# Altium integrated library CAP-CSGP_rev15b.intlib: 820 symbols (part 1 of 9)
Pins are listed as number, name and electrical type; pins without a type are passive.

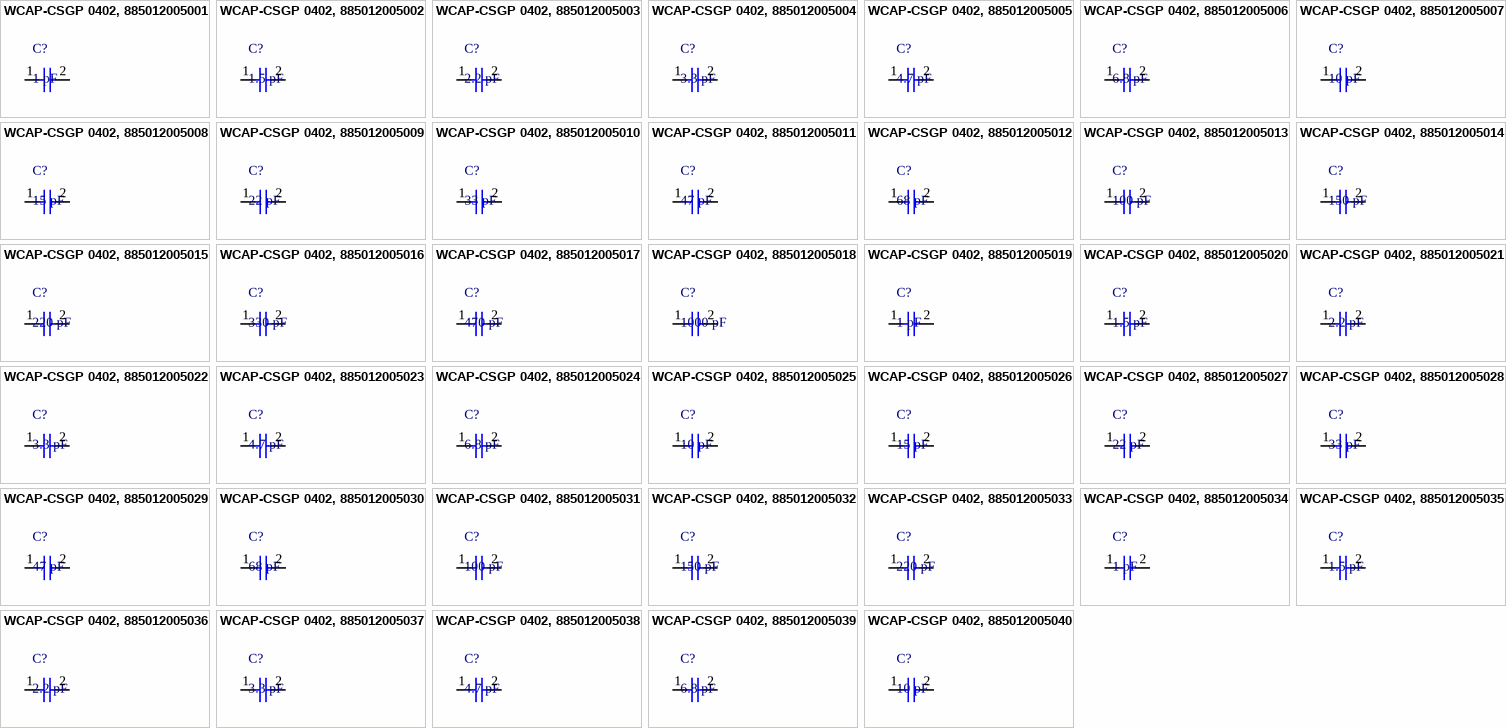
[diagram p0: symbols WCAP-CSGP 0402, 885012005001 to WCAP-CSGP 0402, 885012005040]

## WCAP-CSGP 0402, 885012005001
designator C?, comment 1 pF
WCAP-CSGP MLCC, NP0, 0402, 1 pF,10Vdc; Manufacturer: Wurth Elektronik; partNo: 885012005001; E-mail: libraries@we-online.com; ComponentLink1Description: Manufacturer; ComponentLink1URL: http://www.we-online.com; ComponentLink2Description: Datasheet; ComponentLink2URL: http://katalog.we-online.de/pbs/datasheet/885012005001.pdf; Created by: Karrer Zheng; Created Date: 3/9/2015; Capacitance: 1 pF
footprint WCAP-CSGP 0402, H=0.5mm
pins: 1, 2

## WCAP-CSGP 0402, 885012005002
designator C?, comment 1.5 pF
WCAP-CSGP MLCC, NP0, 0402, 1.5 pF,10Vdc; Manufacturer: Wurth Elektronik; partNo: 885012005002; E-mail: libraries@we-online.com; ComponentLink1Description: Manufacturer; ComponentLink1URL: http://www.we-online.com; ComponentLink2Description: Datasheet; ComponentLink2URL: http://katalog.we-online.de/pbs/datasheet/885012005002.pdf; Created by: Karrer Zheng; Created Date: 3/9/2015; Capacitance: 1.5 pF
footprint WCAP-CSGP 0402, H=0.5mm
pins: 1, 2

## WCAP-CSGP 0402, 885012005003
designator C?, comment 2.2 pF
WCAP-CSGP MLCC, NP0, 0402, 2.2 pF,10Vdc; Manufacturer: Wurth Elektronik; partNo: 885012005003; E-mail: libraries@we-online.com; ComponentLink1Description: Manufacturer; ComponentLink1URL: http://www.we-online.com; ComponentLink2Description: Datasheet; ComponentLink2URL: http://katalog.we-online.de/pbs/datasheet/885012005003.pdf; Created by: Karrer Zheng; Created Date: 3/9/2015; Capacitance: 2.2 pF
footprint WCAP-CSGP 0402, H=0.5mm
pins: 1, 2

## WCAP-CSGP 0402, 885012005004
designator C?, comment 3.3 pF
WCAP-CSGP MLCC, NP0, 0402, 3.3 pF,10Vdc; Manufacturer: Wurth Elektronik; partNo: 885012005004; E-mail: libraries@we-online.com; ComponentLink1Description: Manufacturer; ComponentLink1URL: http://www.we-online.com; ComponentLink2Description: Datasheet; ComponentLink2URL: http://katalog.we-online.de/pbs/datasheet/885012005004.pdf; Created by: Karrer Zheng; Created Date: 3/9/2015; Capacitance: 3.3 pF
footprint WCAP-CSGP 0402, H=0.5mm
pins: 1, 2

## WCAP-CSGP 0402, 885012005005
designator C?, comment 4.7 pF
WCAP-CSGP MLCC, NP0, 0402, 4.7 pF,10Vdc; Manufacturer: Wurth Elektronik; partNo: 885012005005; E-mail: libraries@we-online.com; ComponentLink1Description: Manufacturer; ComponentLink1URL: http://www.we-online.com; ComponentLink2Description: Datasheet; ComponentLink2URL: http://katalog.we-online.de/pbs/datasheet/885012005005.pdf; Created by: Karrer Zheng; Created Date: 3/9/2015; Capacitance: 4.7 pF
footprint WCAP-CSGP 0402, H=0.5mm
pins: 1, 2

## WCAP-CSGP 0402, 885012005006
designator C?, comment 6.8 pF
WCAP-CSGP MLCC, NP0, 0402, 6.8 pF,10Vdc; Manufacturer: Wurth Elektronik; partNo: 885012005006; E-mail: libraries@we-online.com; ComponentLink1Description: Manufacturer; ComponentLink1URL: http://www.we-online.com; ComponentLink2Description: Datasheet; ComponentLink2URL: http://katalog.we-online.de/pbs/datasheet/885012005006.pdf; Created by: Karrer Zheng; Created Date: 3/9/2015; Capacitance: 6.8 pF
footprint WCAP-CSGP 0402, H=0.5mm
pins: 1, 2

## WCAP-CSGP 0402, 885012005007
designator C?, comment 10 pF
WCAP-CSGP MLCC, NP0, 0402, 10 pF,10Vdc; Manufacturer: Wurth Elektronik; partNo: 885012005007; E-mail: libraries@we-online.com; ComponentLink1Description: Manufacturer; ComponentLink1URL: http://www.we-online.com; ComponentLink2Description: Datasheet; ComponentLink2URL: http://katalog.we-online.de/pbs/datasheet/885012005007.pdf; Created by: Karrer Zheng; Created Date: 3/9/2015; Capacitance: 10 pF
footprint WCAP-CSGP 0402, H=0.5mm
pins: 1, 2

## WCAP-CSGP 0402, 885012005008
designator C?, comment 15 pF
WCAP-CSGP MLCC, NP0, 0402, 15 pF,10Vdc; Manufacturer: Wurth Elektronik; partNo: 885012005008; E-mail: libraries@we-online.com; ComponentLink1Description: Manufacturer; ComponentLink1URL: http://www.we-online.com; ComponentLink2Description: Datasheet; ComponentLink2URL: http://katalog.we-online.de/pbs/datasheet/885012005008.pdf; Created by: Karrer Zheng; Created Date: 3/9/2015; Capacitance: 15 pF
footprint WCAP-CSGP 0402, H=0.5mm
pins: 1, 2

## WCAP-CSGP 0402, 885012005009
designator C?, comment 22 pF
WCAP-CSGP MLCC, NP0, 0402, 22 pF,10Vdc; Manufacturer: Wurth Elektronik; partNo: 885012005009; E-mail: libraries@we-online.com; ComponentLink1Description: Manufacturer; ComponentLink1URL: http://www.we-online.com; ComponentLink2Description: Datasheet; ComponentLink2URL: http://katalog.we-online.de/pbs/datasheet/885012005009.pdf; Created by: Karrer Zheng; Created Date: 3/9/2015; Capacitance: 22 pF
footprint WCAP-CSGP 0402, H=0.5mm
pins: 1, 2

## WCAP-CSGP 0402, 885012005010
designator C?, comment 33 pF
WCAP-CSGP MLCC, NP0, 0402, 33 pF,10Vdc; Manufacturer: Wurth Elektronik; partNo: 885012005010; E-mail: libraries@we-online.com; ComponentLink1Description: Manufacturer; ComponentLink1URL: http://www.we-online.com; ComponentLink2Description: Datasheet; ComponentLink2URL: http://katalog.we-online.de/pbs/datasheet/885012005010.pdf; Created by: Karrer Zheng; Created Date: 3/9/2015; Capacitance: 33 pF
footprint WCAP-CSGP 0402, H=0.5mm
pins: 1, 2

## WCAP-CSGP 0402, 885012005011
designator C?, comment 47 pF
WCAP-CSGP MLCC, NP0, 0402, 47 pF,10Vdc; Manufacturer: Wurth Elektronik; partNo: 885012005011; E-mail: libraries@we-online.com; ComponentLink1Description: Manufacturer; ComponentLink1URL: http://www.we-online.com; ComponentLink2Description: Datasheet; ComponentLink2URL: http://katalog.we-online.de/pbs/datasheet/885012005011.pdf; Created by: Karrer Zheng; Created Date: 3/9/2015; Capacitance: 47 pF
footprint WCAP-CSGP 0402, H=0.5mm
pins: 1, 2

## WCAP-CSGP 0402, 885012005012
designator C?, comment 68 pF
WCAP-CSGP MLCC, NP0, 0402, 68 pF,10Vdc; Manufacturer: Wurth Elektronik; partNo: 885012005012; E-mail: libraries@we-online.com; ComponentLink1Description: Manufacturer; ComponentLink1URL: http://www.we-online.com; ComponentLink2Description: Datasheet; ComponentLink2URL: http://katalog.we-online.de/pbs/datasheet/885012005012.pdf; Created by: Karrer Zheng; Created Date: 3/9/2015; Capacitance: 68 pF
footprint WCAP-CSGP 0402, H=0.5mm
pins: 1, 2

## WCAP-CSGP 0402, 885012005013
designator C?, comment 100 pF
WCAP-CSGP MLCC, NP0, 0402, 100 pF,10Vdc; Manufacturer: Wurth Elektronik; partNo: 885012005013; E-mail: libraries@we-online.com; ComponentLink1Description: Manufacturer; ComponentLink1URL: http://www.we-online.com; ComponentLink2Description: Datasheet; ComponentLink2URL: http://katalog.we-online.de/pbs/datasheet/885012005013.pdf; Created by: Karrer Zheng; Created Date: 3/9/2015; Capacitance: 100 pF
footprint WCAP-CSGP 0402, H=0.5mm
pins: 1, 2

## WCAP-CSGP 0402, 885012005014
designator C?, comment 150 pF
WCAP-CSGP MLCC, NP0, 0402, 150 pF,10Vdc; Manufacturer: Wurth Elektronik; partNo: 885012005014; E-mail: libraries@we-online.com; ComponentLink1Description: Manufacturer; ComponentLink1URL: http://www.we-online.com; ComponentLink2Description: Datasheet; ComponentLink2URL: http://katalog.we-online.de/pbs/datasheet/885012005014.pdf; Created by: Karrer Zheng; Created Date: 3/9/2015; Capacitance: 150 pF
footprint WCAP-CSGP 0402, H=0.5mm
pins: 1, 2

## WCAP-CSGP 0402, 885012005015
designator C?, comment 220 pF
WCAP-CSGP MLCC, NP0, 0402, 220 pF,10Vdc; Manufacturer: Wurth Elektronik; partNo: 885012005015; E-mail: libraries@we-online.com; ComponentLink1Description: Manufacturer; ComponentLink1URL: http://www.we-online.com; ComponentLink2Description: Datasheet; ComponentLink2URL: http://katalog.we-online.de/pbs/datasheet/885012005015.pdf; Created by: Karrer Zheng; Created Date: 3/9/2015; Capacitance: 220 pF
footprint WCAP-CSGP 0402, H=0.5mm
pins: 1, 2

## WCAP-CSGP 0402, 885012005016
designator C?, comment 330 pF
WCAP-CSGP MLCC, NP0, 0402, 330 pF,10Vdc; Manufacturer: Wurth Elektronik; partNo: 885012005016; E-mail: libraries@we-online.com; ComponentLink1Description: Manufacturer; ComponentLink1URL: http://www.we-online.com; ComponentLink2Description: Datasheet; ComponentLink2URL: http://katalog.we-online.de/pbs/datasheet/885012005016.pdf; Created by: Karrer Zheng; Created Date: 3/9/2015; Capacitance: 330 pF
footprint WCAP-CSGP 0402, H=0.5mm
pins: 1, 2

## WCAP-CSGP 0402, 885012005017
designator C?, comment 470 pF
WCAP-CSGP MLCC, NP0, 0402, 470 pF,10Vdc; Manufacturer: Wurth Elektronik; partNo: 885012005017; E-mail: libraries@we-online.com; ComponentLink1Description: Manufacturer; ComponentLink1URL: http://www.we-online.com; ComponentLink2Description: Datasheet; ComponentLink2URL: http://katalog.we-online.de/pbs/datasheet/885012005017.pdf; Created by: Karrer Zheng; Created Date: 3/9/2015; Capacitance: 470 pF
footprint WCAP-CSGP 0402, H=0.5mm
pins: 1, 2

## WCAP-CSGP 0402, 885012005018
designator C?, comment 1000 pF
WCAP-CSGP MLCC, NP0, 0402, 1000 pF,10Vdc; Manufacturer: Wurth Elektronik; partNo: 885012005018; E-mail: libraries@we-online.com; ComponentLink1Description: Manufacturer; ComponentLink1URL: http://www.we-online.com; ComponentLink2Description: Datasheet; ComponentLink2URL: http://katalog.we-online.de/pbs/datasheet/885012005018.pdf; Created by: Karrer Zheng; Created Date: 3/9/2015; Capacitance: 1000 pF
footprint WCAP-CSGP 0402, H=0.5mm
pins: 1, 2

## WCAP-CSGP 0402, 885012005019
designator C?, comment 1 pF
WCAP-CSGP MLCC, NP0, 0402, 1 pF,16Vdc; Manufacturer: Wurth Elektronik; partNo: 885012005019; E-mail: libraries@we-online.com; ComponentLink1Description: Manufacturer; ComponentLink1URL: http://www.we-online.com; ComponentLink2Description: Datasheet; ComponentLink2URL: http://katalog.we-online.de/pbs/datasheet/885012005019.pdf; Created by: Karrer Zheng; Created Date: 3/9/2015; Capacitance: 1 pF
footprint WCAP-CSGP 0402, H=0.5mm
pins: 1, 2

## WCAP-CSGP 0402, 885012005020
designator C?, comment 1.5 pF
WCAP-CSGP MLCC, NP0, 0402, 1.5 pF,16Vdc; Manufacturer: Wurth Elektronik; partNo: 885012005020; E-mail: libraries@we-online.com; ComponentLink1Description: Manufacturer; ComponentLink1URL: http://www.we-online.com; ComponentLink2Description: Datasheet; ComponentLink2URL: http://katalog.we-online.de/pbs/datasheet/885012005020.pdf; Created by: Karrer Zheng; Created Date: 3/9/2015; Capacitance: 1.5 pF
footprint WCAP-CSGP 0402, H=0.5mm
pins: 1, 2

## WCAP-CSGP 0402, 885012005021
designator C?, comment 2.2 pF
WCAP-CSGP MLCC, NP0, 0402, 2.2 pF,16Vdc; Manufacturer: Wurth Elektronik; partNo: 885012005021; E-mail: libraries@we-online.com; ComponentLink1Description: Manufacturer; ComponentLink1URL: http://www.we-online.com; ComponentLink2Description: Datasheet; ComponentLink2URL: http://katalog.we-online.de/pbs/datasheet/885012005021.pdf; Created by: Karrer Zheng; Created Date: 3/9/2015; Capacitance: 2.2 pF
footprint WCAP-CSGP 0402, H=0.5mm
pins: 1, 2

## WCAP-CSGP 0402, 885012005022
designator C?, comment 3.3 pF
WCAP-CSGP MLCC, NP0, 0402, 3.3 pF,16Vdc; Manufacturer: Wurth Elektronik; partNo: 885012005022; E-mail: libraries@we-online.com; ComponentLink1Description: Manufacturer; ComponentLink1URL: http://www.we-online.com; ComponentLink2Description: Datasheet; ComponentLink2URL: http://katalog.we-online.de/pbs/datasheet/885012005022.pdf; Created by: Karrer Zheng; Created Date: 3/9/2015; Capacitance: 3.3 pF
footprint WCAP-CSGP 0402, H=0.5mm
pins: 1, 2

## WCAP-CSGP 0402, 885012005023
designator C?, comment 4.7 pF
WCAP-CSGP MLCC, NP0, 0402, 4.7 pF,16Vdc; Manufacturer: Wurth Elektronik; partNo: 885012005023; E-mail: libraries@we-online.com; ComponentLink1Description: Manufacturer; ComponentLink1URL: http://www.we-online.com; ComponentLink2Description: Datasheet; ComponentLink2URL: http://katalog.we-online.de/pbs/datasheet/885012005023.pdf; Created by: Karrer Zheng; Created Date: 3/9/2015; Capacitance: 4.7 pF
footprint WCAP-CSGP 0402, H=0.5mm
pins: 1, 2

## WCAP-CSGP 0402, 885012005024
designator C?, comment 6.8 pF
WCAP-CSGP MLCC, NP0, 0402, 6.8 pF,16Vdc; Manufacturer: Wurth Elektronik; partNo: 885012005024; E-mail: libraries@we-online.com; ComponentLink1Description: Manufacturer; ComponentLink1URL: http://www.we-online.com; ComponentLink2Description: Datasheet; ComponentLink2URL: http://katalog.we-online.de/pbs/datasheet/885012005024.pdf; Created by: Karrer Zheng; Created Date: 3/9/2015; Capacitance: 6.8 pF
footprint WCAP-CSGP 0402, H=0.5mm
pins: 1, 2

## WCAP-CSGP 0402, 885012005025
designator C?, comment 10 pF
WCAP-CSGP MLCC, NP0, 0402, 10 pF,16Vdc; Manufacturer: Wurth Elektronik; partNo: 885012005025; E-mail: libraries@we-online.com; ComponentLink1Description: Manufacturer; ComponentLink1URL: http://www.we-online.com; ComponentLink2Description: Datasheet; ComponentLink2URL: http://katalog.we-online.de/pbs/datasheet/885012005025.pdf; Created by: Karrer Zheng; Created Date: 3/9/2015; Capacitance: 10 pF
footprint WCAP-CSGP 0402, H=0.5mm
pins: 1, 2

## WCAP-CSGP 0402, 885012005026
designator C?, comment 15 pF
WCAP-CSGP MLCC, NP0, 0402, 15 pF,16Vdc; Manufacturer: Wurth Elektronik; partNo: 885012005026; E-mail: libraries@we-online.com; ComponentLink1Description: Manufacturer; ComponentLink1URL: http://www.we-online.com; ComponentLink2Description: Datasheet; ComponentLink2URL: http://katalog.we-online.de/pbs/datasheet/885012005026.pdf; Created by: Karrer Zheng; Created Date: 3/9/2015; Capacitance: 15 pF
footprint WCAP-CSGP 0402, H=0.5mm
pins: 1, 2

## WCAP-CSGP 0402, 885012005027
designator C?, comment 22 pF
WCAP-CSGP MLCC, NP0, 0402, 22 pF,16Vdc; Manufacturer: Wurth Elektronik; partNo: 885012005027; E-mail: libraries@we-online.com; ComponentLink1Description: Manufacturer; ComponentLink1URL: http://www.we-online.com; ComponentLink2Description: Datasheet; ComponentLink2URL: http://katalog.we-online.de/pbs/datasheet/885012005027.pdf; Created by: Karrer Zheng; Created Date: 3/9/2015; Capacitance: 22 pF
footprint WCAP-CSGP 0402, H=0.5mm
pins: 1, 2

## WCAP-CSGP 0402, 885012005028
designator C?, comment 33 pF
WCAP-CSGP MLCC, NP0, 0402, 33 pF,16Vdc; Manufacturer: Wurth Elektronik; partNo: 885012005028; E-mail: libraries@we-online.com; ComponentLink1Description: Manufacturer; ComponentLink1URL: http://www.we-online.com; ComponentLink2Description: Datasheet; ComponentLink2URL: http://katalog.we-online.de/pbs/datasheet/885012005028.pdf; Created by: Karrer Zheng; Created Date: 3/9/2015; Capacitance: 33 pF
footprint WCAP-CSGP 0402, H=0.5mm
pins: 1, 2

## WCAP-CSGP 0402, 885012005029
designator C?, comment 47 pF
WCAP-CSGP MLCC, NP0, 0402, 47 pF,16Vdc; Manufacturer: Wurth Elektronik; partNo: 885012005029; E-mail: libraries@we-online.com; ComponentLink1Description: Manufacturer; ComponentLink1URL: http://www.we-online.com; ComponentLink2Description: Datasheet; ComponentLink2URL: http://katalog.we-online.de/pbs/datasheet/885012005029.pdf; Created by: Karrer Zheng; Created Date: 3/9/2015; Capacitance: 47 pF
footprint WCAP-CSGP 0402, H=0.5mm
pins: 1, 2

## WCAP-CSGP 0402, 885012005030
designator C?, comment 68 pF
WCAP-CSGP MLCC, NP0, 0402, 68 pF,16Vdc; Manufacturer: Wurth Elektronik; partNo: 885012005030; E-mail: libraries@we-online.com; ComponentLink1Description: Manufacturer; ComponentLink1URL: http://www.we-online.com; ComponentLink2Description: Datasheet; ComponentLink2URL: http://katalog.we-online.de/pbs/datasheet/885012005030.pdf; Created by: Karrer Zheng; Created Date: 3/9/2015; Capacitance: 68 pF
footprint WCAP-CSGP 0402, H=0.5mm
pins: 1, 2

## WCAP-CSGP 0402, 885012005031
designator C?, comment 100 pF
WCAP-CSGP MLCC, NP0, 0402, 100 pF,16Vdc; Manufacturer: Wurth Elektronik; partNo: 885012005031; E-mail: libraries@we-online.com; ComponentLink1Description: Manufacturer; ComponentLink1URL: http://www.we-online.com; ComponentLink2Description: Datasheet; ComponentLink2URL: http://katalog.we-online.de/pbs/datasheet/885012005031.pdf; Created by: Karrer Zheng; Created Date: 3/9/2015; Capacitance: 100 pF
footprint WCAP-CSGP 0402, H=0.5mm
pins: 1, 2

## WCAP-CSGP 0402, 885012005032
designator C?, comment 150 pF
WCAP-CSGP MLCC, NP0, 0402, 150 pF,16Vdc; Manufacturer: Wurth Elektronik; partNo: 885012005032; E-mail: libraries@we-online.com; ComponentLink1Description: Manufacturer; ComponentLink1URL: http://www.we-online.com; ComponentLink2Description: Datasheet; ComponentLink2URL: http://katalog.we-online.de/pbs/datasheet/885012005032.pdf; Created by: Karrer Zheng; Created Date: 3/9/2015; Capacitance: 150 pF
footprint WCAP-CSGP 0402, H=0.5mm
pins: 1, 2

## WCAP-CSGP 0402, 885012005033
designator C?, comment 220 pF
WCAP-CSGP MLCC, NP0, 0402, 220 pF,16Vdc; Manufacturer: Wurth Elektronik; partNo: 885012005033; E-mail: libraries@we-online.com; ComponentLink1Description: Manufacturer; ComponentLink1URL: http://www.we-online.com; ComponentLink2Description: Datasheet; ComponentLink2URL: http://katalog.we-online.de/pbs/datasheet/885012005033.pdf; Created by: Karrer Zheng; Created Date: 3/9/2015; Capacitance: 220 pF
footprint WCAP-CSGP 0402, H=0.5mm
pins: 1, 2

## WCAP-CSGP 0402, 885012005034
designator C?, comment 1 pF
WCAP-CSGP MLCC, NP0, 0402, 1 pF,25Vdc; Manufacturer: Wurth Elektronik; partNo: 885012005034; E-mail: libraries@we-online.com; ComponentLink1Description: Manufacturer; ComponentLink1URL: http://www.we-online.com; ComponentLink2Description: Datasheet; ComponentLink2URL: http://katalog.we-online.de/pbs/datasheet/885012005034.pdf; Created by: Karrer Zheng; Created Date: 3/9/2015; Capacitance: 1 pF
footprint WCAP-CSGP 0402, H=0.5mm
pins: 1, 2

## WCAP-CSGP 0402, 885012005035
designator C?, comment 1.5 pF
WCAP-CSGP MLCC, NP0, 0402, 1.5 pF,25Vdc; Manufacturer: Wurth Elektronik; partNo: 885012005035; E-mail: libraries@we-online.com; ComponentLink1Description: Manufacturer; ComponentLink1URL: http://www.we-online.com; ComponentLink2Description: Datasheet; ComponentLink2URL: http://katalog.we-online.de/pbs/datasheet/885012005035.pdf; Created by: Karrer Zheng; Created Date: 3/9/2015; Capacitance: 1.5 pF
footprint WCAP-CSGP 0402, H=0.5mm
pins: 1, 2

## WCAP-CSGP 0402, 885012005036
designator C?, comment 2.2 pF
WCAP-CSGP MLCC, NP0, 0402, 2.2 pF,25Vdc; Manufacturer: Wurth Elektronik; partNo: 885012005036; E-mail: libraries@we-online.com; ComponentLink1Description: Manufacturer; ComponentLink1URL: http://www.we-online.com; ComponentLink2Description: Datasheet; ComponentLink2URL: http://katalog.we-online.de/pbs/datasheet/885012005036.pdf; Created by: Karrer Zheng; Created Date: 3/9/2015; Capacitance: 2.2 pF
footprint WCAP-CSGP 0402, H=0.5mm
pins: 1, 2

## WCAP-CSGP 0402, 885012005037
designator C?, comment 3.3 pF
WCAP-CSGP MLCC, NP0, 0402, 3.3 pF,25Vdc; Manufacturer: Wurth Elektronik; partNo: 885012005037; E-mail: libraries@we-online.com; ComponentLink1Description: Manufacturer; ComponentLink1URL: http://www.we-online.com; ComponentLink2Description: Datasheet; ComponentLink2URL: http://katalog.we-online.de/pbs/datasheet/885012005037.pdf; Created by: Karrer Zheng; Created Date: 3/9/2015; Capacitance: 3.3 pF
footprint WCAP-CSGP 0402, H=0.5mm
pins: 1, 2

## WCAP-CSGP 0402, 885012005038
designator C?, comment 4.7 pF
WCAP-CSGP MLCC, NP0, 0402, 4.7 pF,25Vdc; Manufacturer: Wurth Elektronik; partNo: 885012005038; E-mail: libraries@we-online.com; ComponentLink1Description: Manufacturer; ComponentLink1URL: http://www.we-online.com; ComponentLink2Description: Datasheet; ComponentLink2URL: http://katalog.we-online.de/pbs/datasheet/885012005038.pdf; Created by: Karrer Zheng; Created Date: 3/9/2015; Capacitance: 4.7 pF
footprint WCAP-CSGP 0402, H=0.5mm
pins: 1, 2

## WCAP-CSGP 0402, 885012005039
designator C?, comment 6.8 pF
WCAP-CSGP MLCC, NP0, 0402, 6.8 pF,25Vdc; Manufacturer: Wurth Elektronik; partNo: 885012005039; E-mail: libraries@we-online.com; ComponentLink1Description: Manufacturer; ComponentLink1URL: http://www.we-online.com; ComponentLink2Description: Datasheet; ComponentLink2URL: http://katalog.we-online.de/pbs/datasheet/885012005039.pdf; Created by: Karrer Zheng; Created Date: 3/9/2015; Capacitance: 6.8 pF
footprint WCAP-CSGP 0402, H=0.5mm
pins: 1, 2

## WCAP-CSGP 0402, 885012005040
designator C?, comment 10 pF
WCAP-CSGP MLCC, NP0, 0402, 10 pF,25Vdc; Manufacturer: Wurth Elektronik; partNo: 885012005040; E-mail: libraries@we-online.com; ComponentLink1Description: Manufacturer; ComponentLink1URL: http://www.we-online.com; ComponentLink2Description: Datasheet; ComponentLink2URL: http://katalog.we-online.de/pbs/datasheet/885012005040.pdf; Created by: Karrer Zheng; Created Date: 3/9/2015; Capacitance: 10 pF
footprint WCAP-CSGP 0402, H=0.5mm
pins: 1, 2

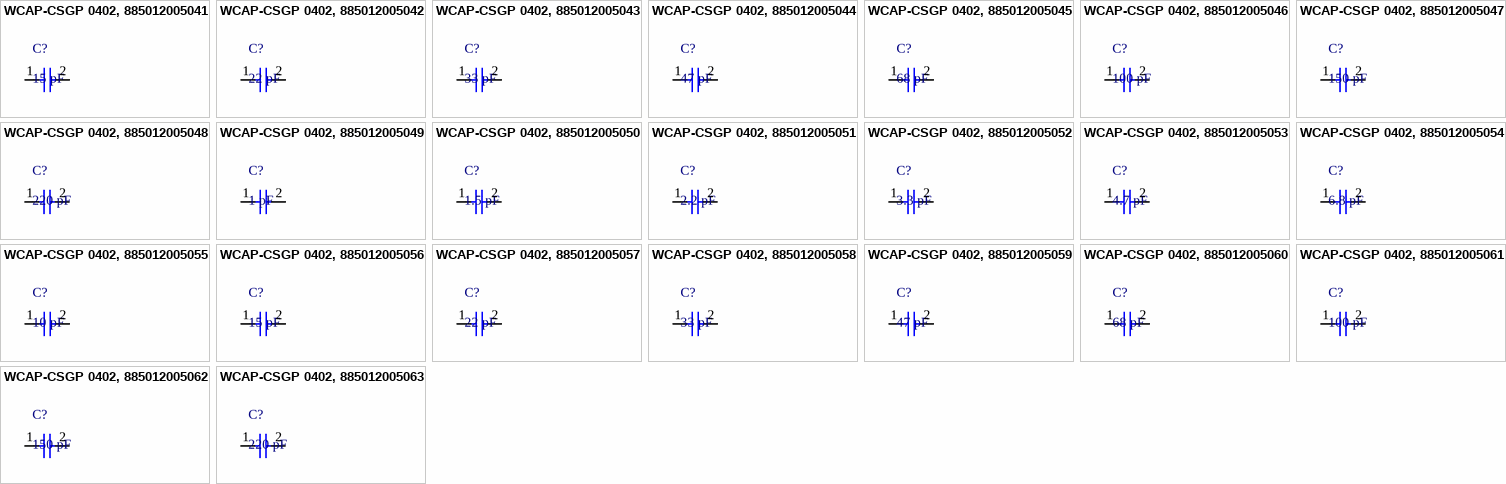
[diagram p1: symbols WCAP-CSGP 0402, 885012005041 to WCAP-CSGP 0402, 885012005063]

## WCAP-CSGP 0402, 885012005041
designator C?, comment 15 pF
WCAP-CSGP MLCC, NP0, 0402, 15 pF,25Vdc; Manufacturer: Wurth Elektronik; partNo: 885012005041; E-mail: libraries@we-online.com; ComponentLink1Description: Manufacturer; ComponentLink1URL: http://www.we-online.com; ComponentLink2Description: Datasheet; ComponentLink2URL: http://katalog.we-online.de/pbs/datasheet/885012005041.pdf; Created by: Karrer Zheng; Created Date: 3/9/2015; Capacitance: 15 pF
footprint WCAP-CSGP 0402, H=0.5mm
pins: 1, 2

## WCAP-CSGP 0402, 885012005042
designator C?, comment 22 pF
WCAP-CSGP MLCC, NP0, 0402, 22 pF,25Vdc; Manufacturer: Wurth Elektronik; partNo: 885012005042; E-mail: libraries@we-online.com; ComponentLink1Description: Manufacturer; ComponentLink1URL: http://www.we-online.com; ComponentLink2Description: Datasheet; ComponentLink2URL: http://katalog.we-online.de/pbs/datasheet/885012005042.pdf; Created by: Karrer Zheng; Created Date: 3/9/2015; Capacitance: 22 pF
footprint WCAP-CSGP 0402, H=0.5mm
pins: 1, 2

## WCAP-CSGP 0402, 885012005043
designator C?, comment 33 pF
WCAP-CSGP MLCC, NP0, 0402, 33 pF,25Vdc; Manufacturer: Wurth Elektronik; partNo: 885012005043; E-mail: libraries@we-online.com; ComponentLink1Description: Manufacturer; ComponentLink1URL: http://www.we-online.com; ComponentLink2Description: Datasheet; ComponentLink2URL: http://katalog.we-online.de/pbs/datasheet/885012005043.pdf; Created by: Karrer Zheng; Created Date: 3/9/2015; Capacitance: 33 pF
footprint WCAP-CSGP 0402, H=0.5mm
pins: 1, 2

## WCAP-CSGP 0402, 885012005044
designator C?, comment 47 pF
WCAP-CSGP MLCC, NP0, 0402, 47 pF,25Vdc; Manufacturer: Wurth Elektronik; partNo: 885012005044; E-mail: libraries@we-online.com; ComponentLink1Description: Manufacturer; ComponentLink1URL: http://www.we-online.com; ComponentLink2Description: Datasheet; ComponentLink2URL: http://katalog.we-online.de/pbs/datasheet/885012005044.pdf; Created by: Karrer Zheng; Created Date: 3/9/2015; Capacitance: 47 pF
footprint WCAP-CSGP 0402, H=0.5mm
pins: 1, 2

## WCAP-CSGP 0402, 885012005045
designator C?, comment 68 pF
WCAP-CSGP MLCC, NP0, 0402, 68 pF,25Vdc; Manufacturer: Wurth Elektronik; partNo: 885012005045; E-mail: libraries@we-online.com; ComponentLink1Description: Manufacturer; ComponentLink1URL: http://www.we-online.com; ComponentLink2Description: Datasheet; ComponentLink2URL: http://katalog.we-online.de/pbs/datasheet/885012005045.pdf; Created by: Karrer Zheng; Created Date: 3/9/2015; Capacitance: 68 pF
footprint WCAP-CSGP 0402, H=0.5mm
pins: 1, 2

## WCAP-CSGP 0402, 885012005046
designator C?, comment 100 pF
WCAP-CSGP MLCC, NP0, 0402, 100 pF,25Vdc; Manufacturer: Wurth Elektronik; partNo: 885012005046; E-mail: libraries@we-online.com; ComponentLink1Description: Manufacturer; ComponentLink1URL: http://www.we-online.com; ComponentLink2Description: Datasheet; ComponentLink2URL: http://katalog.we-online.de/pbs/datasheet/885012005046.pdf; Created by: Karrer Zheng; Created Date: 3/9/2015; Capacitance: 100 pF
footprint WCAP-CSGP 0402, H=0.5mm
pins: 1, 2

## WCAP-CSGP 0402, 885012005047
designator C?, comment 150 pF
WCAP-CSGP MLCC, NP0, 0402, 150 pF,25Vdc; Manufacturer: Wurth Elektronik; partNo: 885012005047; E-mail: libraries@we-online.com; ComponentLink1Description: Manufacturer; ComponentLink1URL: http://www.we-online.com; ComponentLink2Description: Datasheet; ComponentLink2URL: http://katalog.we-online.de/pbs/datasheet/885012005047.pdf; Created by: Karrer Zheng; Created Date: 3/9/2015; Capacitance: 150 pF
footprint WCAP-CSGP 0402, H=0.5mm
pins: 1, 2

## WCAP-CSGP 0402, 885012005048
designator C?, comment 220 pF
WCAP-CSGP MLCC, NP0, 0402, 220 pF,25Vdc; Manufacturer: Wurth Elektronik; partNo: 885012005048; E-mail: libraries@we-online.com; ComponentLink1Description: Manufacturer; ComponentLink1URL: http://www.we-online.com; ComponentLink2Description: Datasheet; ComponentLink2URL: http://katalog.we-online.de/pbs/datasheet/885012005048.pdf; Created by: Karrer Zheng; Created Date: 3/9/2015; Capacitance: 220 pF
footprint WCAP-CSGP 0402, H=0.5mm
pins: 1, 2

## WCAP-CSGP 0402, 885012005049
designator C?, comment 1 pF
WCAP-CSGP MLCC, NP0, 0402, 1 pF,50Vdc; Manufacturer: Wurth Elektronik; partNo: 885012005049; E-mail: libraries@we-online.com; ComponentLink1Description: Manufacturer; ComponentLink1URL: http://www.we-online.com; ComponentLink2Description: Datasheet; ComponentLink2URL: http://katalog.we-online.de/pbs/datasheet/885012005049.pdf; Created by: Karrer Zheng; Created Date: 3/9/2015; Capacitance: 1 pF
footprint WCAP-CSGP 0402, H=0.5mm
pins: 1, 2

## WCAP-CSGP 0402, 885012005050
designator C?, comment 1.5 pF
WCAP-CSGP MLCC, NP0, 0402, 1.5 pF,50Vdc; Manufacturer: Wurth Elektronik; partNo: 885012005050; E-mail: libraries@we-online.com; ComponentLink1Description: Manufacturer; ComponentLink1URL: http://www.we-online.com; ComponentLink2Description: Datasheet; ComponentLink2URL: http://katalog.we-online.de/pbs/datasheet/885012005050.pdf; Created by: Karrer Zheng; Created Date: 3/9/2015; Capacitance: 1.5 pF
footprint WCAP-CSGP 0402, H=0.5mm
pins: 1, 2

## WCAP-CSGP 0402, 885012005051
designator C?, comment 2.2 pF
WCAP-CSGP MLCC, NP0, 0402, 2.2 pF,50Vdc; Manufacturer: Wurth Elektronik; partNo: 885012005051; E-mail: libraries@we-online.com; ComponentLink1Description: Manufacturer; ComponentLink1URL: http://www.we-online.com; ComponentLink2Description: Datasheet; ComponentLink2URL: http://katalog.we-online.de/pbs/datasheet/885012005051.pdf; Created by: Karrer Zheng; Created Date: 3/9/2015; Capacitance: 2.2 pF
footprint WCAP-CSGP 0402, H=0.5mm
pins: 1, 2

## WCAP-CSGP 0402, 885012005052
designator C?, comment 3.3 pF
WCAP-CSGP MLCC, NP0, 0402, 3.3 pF,50Vdc; Manufacturer: Wurth Elektronik; partNo: 885012005052; E-mail: libraries@we-online.com; ComponentLink1Description: Manufacturer; ComponentLink1URL: http://www.we-online.com; ComponentLink2Description: Datasheet; ComponentLink2URL: http://katalog.we-online.de/pbs/datasheet/885012005052.pdf; Created by: Karrer Zheng; Created Date: 3/9/2015; Capacitance: 3.3 pF
footprint WCAP-CSGP 0402, H=0.5mm
pins: 1, 2

## WCAP-CSGP 0402, 885012005053
designator C?, comment 4.7 pF
WCAP-CSGP MLCC, NP0, 0402, 4.7 pF,50Vdc; Manufacturer: Wurth Elektronik; partNo: 885012005053; E-mail: libraries@we-online.com; ComponentLink1Description: Manufacturer; ComponentLink1URL: http://www.we-online.com; ComponentLink2Description: Datasheet; ComponentLink2URL: http://katalog.we-online.de/pbs/datasheet/885012005053.pdf; Created by: Karrer Zheng; Created Date: 3/9/2015; Capacitance: 4.7 pF
footprint WCAP-CSGP 0402, H=0.5mm
pins: 1, 2

## WCAP-CSGP 0402, 885012005054
designator C?, comment 6.8 pF
WCAP-CSGP MLCC, NP0, 0402, 6.8 pF,50Vdc; Manufacturer: Wurth Elektronik; partNo: 885012005054; E-mail: libraries@we-online.com; ComponentLink1Description: Manufacturer; ComponentLink1URL: http://www.we-online.com; ComponentLink2Description: Datasheet; ComponentLink2URL: http://katalog.we-online.de/pbs/datasheet/885012005054.pdf; Created by: Karrer Zheng; Created Date: 3/9/2015; Capacitance: 6.8 pF
footprint WCAP-CSGP 0402, H=0.5mm
pins: 1, 2

## WCAP-CSGP 0402, 885012005055
designator C?, comment 10 pF
WCAP-CSGP MLCC, NP0, 0402, 10 pF,50Vdc; Manufacturer: Wurth Elektronik; partNo: 885012005055; E-mail: libraries@we-online.com; ComponentLink1Description: Manufacturer; ComponentLink1URL: http://www.we-online.com; ComponentLink2Description: Datasheet; ComponentLink2URL: http://katalog.we-online.de/pbs/datasheet/885012005055.pdf; Created by: Karrer Zheng; Created Date: 3/9/2015; Capacitance: 10 pF
footprint WCAP-CSGP 0402, H=0.5mm
pins: 1, 2

## WCAP-CSGP 0402, 885012005056
designator C?, comment 15 pF
WCAP-CSGP MLCC, NP0, 0402, 15 pF,50Vdc; Manufacturer: Wurth Elektronik; partNo: 885012005056; E-mail: libraries@we-online.com; ComponentLink1Description: Manufacturer; ComponentLink1URL: http://www.we-online.com; ComponentLink2Description: Datasheet; ComponentLink2URL: http://katalog.we-online.de/pbs/datasheet/885012005056.pdf; Created by: Karrer Zheng; Created Date: 3/9/2015; Capacitance: 15 pF
footprint WCAP-CSGP 0402, H=0.5mm
pins: 1, 2

## WCAP-CSGP 0402, 885012005057
designator C?, comment 22 pF
WCAP-CSGP MLCC, NP0, 0402, 22 pF,50Vdc; Manufacturer: Wurth Elektronik; partNo: 885012005057; E-mail: libraries@we-online.com; ComponentLink1Description: Manufacturer; ComponentLink1URL: http://www.we-online.com; ComponentLink2Description: Datasheet; ComponentLink2URL: http://katalog.we-online.de/pbs/datasheet/885012005057.pdf; Created by: Karrer Zheng; Created Date: 3/9/2015; Capacitance: 22 pF
footprint WCAP-CSGP 0402, H=0.5mm
pins: 1, 2

## WCAP-CSGP 0402, 885012005058
designator C?, comment 33 pF
WCAP-CSGP MLCC, NP0, 0402, 33 pF,50Vdc; Manufacturer: Wurth Elektronik; partNo: 885012005058; E-mail: libraries@we-online.com; ComponentLink1Description: Manufacturer; ComponentLink1URL: http://www.we-online.com; ComponentLink2Description: Datasheet; ComponentLink2URL: http://katalog.we-online.de/pbs/datasheet/885012005058.pdf; Created by: Karrer Zheng; Created Date: 3/9/2015; Capacitance: 33 pF
footprint WCAP-CSGP 0402, H=0.5mm
pins: 1, 2

## WCAP-CSGP 0402, 885012005059
designator C?, comment 47 pF
WCAP-CSGP MLCC, NP0, 0402, 47 pF,50Vdc; Manufacturer: Wurth Elektronik; partNo: 885012005059; E-mail: libraries@we-online.com; ComponentLink1Description: Manufacturer; ComponentLink1URL: http://www.we-online.com; ComponentLink2Description: Datasheet; ComponentLink2URL: http://katalog.we-online.de/pbs/datasheet/885012005059.pdf; Created by: Karrer Zheng; Created Date: 3/9/2015; Capacitance: 47 pF
footprint WCAP-CSGP 0402, H=0.5mm
pins: 1, 2

## WCAP-CSGP 0402, 885012005060
designator C?, comment 68 pF
WCAP-CSGP MLCC, NP0, 0402, 68 pF,50Vdc; Manufacturer: Wurth Elektronik; partNo: 885012005060; E-mail: libraries@we-online.com; ComponentLink1Description: Manufacturer; ComponentLink1URL: http://www.we-online.com; ComponentLink2Description: Datasheet; ComponentLink2URL: http://katalog.we-online.de/pbs/datasheet/885012005060.pdf; Created by: Karrer Zheng; Created Date: 3/9/2015; Capacitance: 68 pF
footprint WCAP-CSGP 0402, H=0.5mm
pins: 1, 2

## WCAP-CSGP 0402, 885012005061
designator C?, comment 100 pF
WCAP-CSGP MLCC, NP0, 0402, 100 pF,50Vdc; Manufacturer: Wurth Elektronik; partNo: 885012005061; E-mail: libraries@we-online.com; ComponentLink1Description: Manufacturer; ComponentLink1URL: http://www.we-online.com; ComponentLink2Description: Datasheet; ComponentLink2URL: http://katalog.we-online.de/pbs/datasheet/885012005061.pdf; Created by: Karrer Zheng; Created Date: 3/9/2015; Capacitance: 100 pF
footprint WCAP-CSGP 0402, H=0.5mm
pins: 1, 2

## WCAP-CSGP 0402, 885012005062
designator C?, comment 150 pF
WCAP-CSGP MLCC, NP0, 0402, 150 pF,50Vdc; Manufacturer: Wurth Elektronik; partNo: 885012005062; E-mail: libraries@we-online.com; ComponentLink1Description: Manufacturer; ComponentLink1URL: http://www.we-online.com; ComponentLink2Description: Datasheet; ComponentLink2URL: http://katalog.we-online.de/pbs/datasheet/885012005062.pdf; Created by: Karrer Zheng; Created Date: 3/9/2015; Capacitance: 150 pF
footprint WCAP-CSGP 0402, H=0.5mm
pins: 1, 2

## WCAP-CSGP 0402, 885012005063
designator C?, comment 220 pF
WCAP-CSGP MLCC, NP0, 0402, 220 pF,50Vdc; Manufacturer: Wurth Elektronik; partNo: 885012005063; E-mail: libraries@we-online.com; ComponentLink1Description: Manufacturer; ComponentLink1URL: http://www.we-online.com; ComponentLink2Description: Datasheet; ComponentLink2URL: http://katalog.we-online.de/pbs/datasheet/885012005063.pdf; Created by: Karrer Zheng; Created Date: 3/9/2015; Capacitance: 220 pF
footprint WCAP-CSGP 0402, H=0.5mm
pins: 1, 2


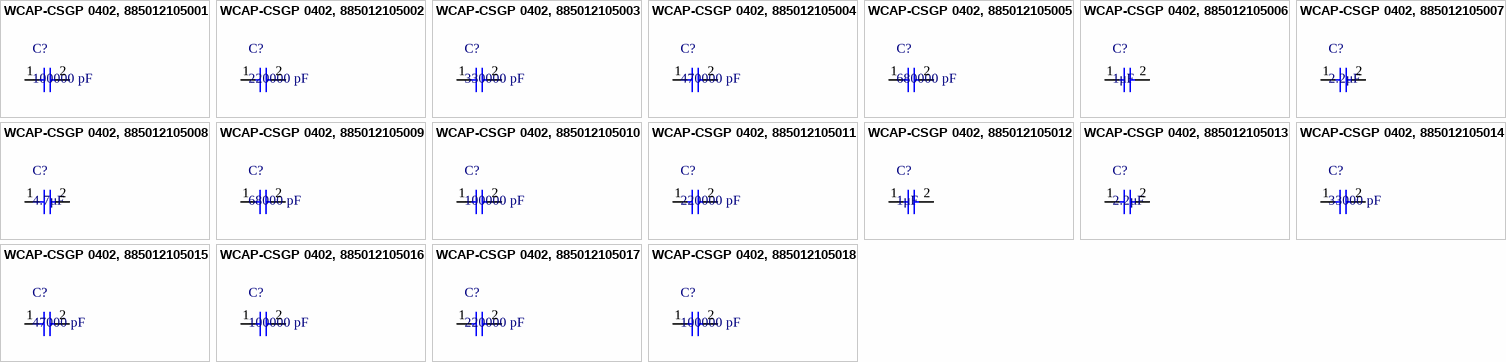
[diagram p2: symbols WCAP-CSGP 0402, 885012105001 to WCAP-CSGP 0402, 885012105018]

## WCAP-CSGP 0402, 885012105001
designator C?, comment 100000 pF
WCAP-CSGP MLCC, X5R, 0402, 100000 pF,6.3Vdc; Manufacturer: Wurth Elektronik; partNo: 885012105001; E-mail: libraries@we-online.com; ComponentLink1Description: Manufacturer; ComponentLink1URL: http://www.we-online.com; ComponentLink2Description: Datasheet; ComponentLink2URL: http://katalog.we-online.de/pbs/datasheet/885012105001.pdf; Created by: Karrer Zheng; Created Date: 3/9/2015; Capacitance: 100000 pF
footprint WCAP-CSGP 0402, H=0.5mm
pins: 1, 2

## WCAP-CSGP 0402, 885012105002
designator C?, comment 220000 pF
WCAP-CSGP MLCC, X5R, 0402, 220000 pF,6.3Vdc; Manufacturer: Wurth Elektronik; partNo: 885012105002; E-mail: libraries@we-online.com; ComponentLink1Description: Manufacturer; ComponentLink1URL: http://www.we-online.com; ComponentLink2Description: Datasheet; ComponentLink2URL: http://katalog.we-online.de/pbs/datasheet/885012105002.pdf; Created by: Karrer Zheng; Created Date: 3/9/2015; Capacitance: 220000 pF
footprint WCAP-CSGP 0402, H=0.5mm
pins: 1, 2

## WCAP-CSGP 0402, 885012105003
designator C?, comment 330000 pF
WCAP-CSGP MLCC, X5R, 0402, 330000 pF,6.3Vdc; Manufacturer: Wurth Elektronik; partNo: 885012105003; E-mail: libraries@we-online.com; ComponentLink1Description: Manufacturer; ComponentLink1URL: http://www.we-online.com; ComponentLink2Description: Datasheet; ComponentLink2URL: http://katalog.we-online.de/pbs/datasheet/885012105003.pdf; Created by: Karrer Zheng; Created Date: 3/9/2015; Capacitance: 330000 pF
footprint WCAP-CSGP 0402, H=0.5mm
pins: 1, 2

## WCAP-CSGP 0402, 885012105004
designator C?, comment 470000 pF
WCAP-CSGP MLCC, X5R, 0402, 470000 pF,6.3Vdc; Manufacturer: Wurth Elektronik; partNo: 885012105004; E-mail: libraries@we-online.com; ComponentLink1Description: Manufacturer; ComponentLink1URL: http://www.we-online.com; ComponentLink2Description: Datasheet; ComponentLink2URL: http://katalog.we-online.de/pbs/datasheet/885012105004.pdf; Created by: Karrer Zheng; Created Date: 3/9/2015; Capacitance: 470000 pF
footprint WCAP-CSGP 0402, H=0.5mm
pins: 1, 2

## WCAP-CSGP 0402, 885012105005
designator C?, comment 680000 pF
WCAP-CSGP MLCC, X5R, 0402, 680000 pF,6.3Vdc; Manufacturer: Wurth Elektronik; partNo: 885012105005; E-mail: libraries@we-online.com; ComponentLink1Description: Manufacturer; ComponentLink1URL: http://www.we-online.com; ComponentLink2Description: Datasheet; ComponentLink2URL: http://katalog.we-online.de/pbs/datasheet/885012105005.pdf; Created by: Karrer Zheng; Created Date: 3/9/2015; Capacitance: 680000 pF
footprint WCAP-CSGP 0402, H=0.5mm
pins: 1, 2

## WCAP-CSGP 0402, 885012105006
designator C?, comment 1μF
WCAP-CSGP MLCC, X5R, 0402, 1μF pF,6.3Vdc; Manufacturer: Wurth Elektronik; partNo: 885012105006; E-mail: libraries@we-online.com; ComponentLink1Description: Manufacturer; ComponentLink1URL: http://www.we-online.com; ComponentLink2Description: Datasheet; ComponentLink2URL: http://katalog.we-online.de/pbs/datasheet/885012105006.pdf; Created by: Karrer Zheng; Created Date: 3/9/2015; Capacitance: 1μF
footprint WCAP-CSGP 0402, H=0.5mm
pins: 1, 2

## WCAP-CSGP 0402, 885012105007
designator C?, comment 2.2μF
WCAP-CSGP MLCC, X5R, 0402, 2.2μF pF,6.3Vdc; Manufacturer: Wurth Elektronik; partNo: 885012105007; E-mail: libraries@we-online.com; ComponentLink1Description: Manufacturer; ComponentLink1URL: http://www.we-online.com; ComponentLink2Description: Datasheet; ComponentLink2URL: http://katalog.we-online.de/pbs/datasheet/885012105007.pdf; Created by: Karrer Zheng; Created Date: 3/9/2015; Capacitance: 2.2μF
footprint WCAP-CSGP 0402, H=0.5mm
pins: 1, 2

## WCAP-CSGP 0402, 885012105008
designator C?, comment 4.7μF
WCAP-CSGP MLCC, X5R, 0402, 4.7μF pF,6.3Vdc; Manufacturer: Wurth Elektronik; partNo: 885012105008; E-mail: libraries@we-online.com; ComponentLink1Description: Manufacturer; ComponentLink1URL: http://www.we-online.com; ComponentLink2Description: Datasheet; ComponentLink2URL: http://katalog.we-online.de/pbs/datasheet/885012105008.pdf; Created by: Karrer Zheng; Created Date: 3/9/2015; Capacitance: 4.7μF
footprint WCAP-CSGP 0402, H=0.5mm
pins: 1, 2

## WCAP-CSGP 0402, 885012105009
designator C?, comment 68000 pF
WCAP-CSGP MLCC, X5R, 0402, 68000 pF,10Vdc; Manufacturer: Wurth Elektronik; partNo: 885012105009; E-mail: libraries@we-online.com; ComponentLink1Description: Manufacturer; ComponentLink1URL: http://www.we-online.com; ComponentLink2Description: Datasheet; ComponentLink2URL: http://katalog.we-online.de/pbs/datasheet/885012105009.pdf; Created by: Karrer Zheng; Created Date: 3/9/2015; Capacitance: 68000 pF
footprint WCAP-CSGP 0402, H=0.5mm
pins: 1, 2

## WCAP-CSGP 0402, 885012105010
designator C?, comment 100000 pF
WCAP-CSGP MLCC, X5R, 0402, 100000 pF,10Vdc; Manufacturer: Wurth Elektronik; partNo: 885012105010; E-mail: libraries@we-online.com; ComponentLink1Description: Manufacturer; ComponentLink1URL: http://www.we-online.com; ComponentLink2Description: Datasheet; ComponentLink2URL: http://katalog.we-online.de/pbs/datasheet/885012105010.pdf; Created by: Karrer Zheng; Created Date: 3/9/2015; Capacitance: 100000 pF
footprint WCAP-CSGP 0402, H=0.5mm
pins: 1, 2

## WCAP-CSGP 0402, 885012105011
designator C?, comment 220000 pF
WCAP-CSGP MLCC, X5R, 0402, 220000 pF,10Vdc; Manufacturer: Wurth Elektronik; partNo: 885012105011; E-mail: libraries@we-online.com; ComponentLink1Description: Manufacturer; ComponentLink1URL: http://www.we-online.com; ComponentLink2Description: Datasheet; ComponentLink2URL: http://katalog.we-online.de/pbs/datasheet/885012105011.pdf; Created by: Karrer Zheng; Created Date: 3/9/2015; Capacitance: 220000 pF
footprint WCAP-CSGP 0402, H=0.5mm
pins: 1, 2

## WCAP-CSGP 0402, 885012105012
designator C?, comment 1μF
WCAP-CSGP MLCC, X5R, 0402, 1μF pF,10Vdc; Manufacturer: Wurth Elektronik; partNo: 885012105012; E-mail: libraries@we-online.com; ComponentLink1Description: Manufacturer; ComponentLink1URL: http://www.we-online.com; ComponentLink2Description: Datasheet; ComponentLink2URL: http://katalog.we-online.de/pbs/datasheet/885012105012.pdf; Created by: Karrer Zheng; Created Date: 3/9/2015; Capacitance: 1μF
footprint WCAP-CSGP 0402, H=0.5mm
pins: 1, 2

## WCAP-CSGP 0402, 885012105013
designator C?, comment 2.2μF
WCAP-CSGP MLCC, X5R, 0402, 2.2μF pF,10Vdc; Manufacturer: Wurth Elektronik; partNo: 885012105013; E-mail: libraries@we-online.com; ComponentLink1Description: Manufacturer; ComponentLink1URL: http://www.we-online.com; ComponentLink2Description: Datasheet; ComponentLink2URL: http://katalog.we-online.de/pbs/datasheet/885012105013.pdf; Created by: Karrer Zheng; Created Date: 3/9/2015; Capacitance: 2.2μF
footprint WCAP-CSGP 0402, H=0.5mm
pins: 1, 2

## WCAP-CSGP 0402, 885012105014
designator C?, comment 33000 pF
WCAP-CSGP MLCC, X5R, 0402, 33000 pF,16Vdc; Manufacturer: Wurth Elektronik; partNo: 885012105014; E-mail: libraries@we-online.com; ComponentLink1Description: Manufacturer; ComponentLink1URL: http://www.we-online.com; ComponentLink2Description: Datasheet; ComponentLink2URL: http://katalog.we-online.de/pbs/datasheet/885012105014.pdf; Created by: Karrer Zheng; Created Date: 3/9/2015; Capacitance: 33000 pF
footprint WCAP-CSGP 0402, H=0.5mm
pins: 1, 2

## WCAP-CSGP 0402, 885012105015
designator C?, comment 47000 pF
WCAP-CSGP MLCC, X5R, 0402, 47000 pF,16Vdc; Manufacturer: Wurth Elektronik; partNo: 885012105015; E-mail: libraries@we-online.com; ComponentLink1Description: Manufacturer; ComponentLink1URL: http://www.we-online.com; ComponentLink2Description: Datasheet; ComponentLink2URL: http://katalog.we-online.de/pbs/datasheet/885012105015.pdf; Created by: Karrer Zheng; Created Date: 3/9/2015; Capacitance: 47000 pF
footprint WCAP-CSGP 0402, H=0.5mm
pins: 1, 2

## WCAP-CSGP 0402, 885012105016
designator C?, comment 100000 pF
WCAP-CSGP MLCC, X5R, 0402, 100000 pF,16Vdc; Manufacturer: Wurth Elektronik; partNo: 885012105016; E-mail: libraries@we-online.com; ComponentLink1Description: Manufacturer; ComponentLink1URL: http://www.we-online.com; ComponentLink2Description: Datasheet; ComponentLink2URL: http://katalog.we-online.de/pbs/datasheet/885012105016.pdf; Created by: Karrer Zheng; Created Date: 3/9/2015; Capacitance: 100000 pF
footprint WCAP-CSGP 0402, H=0.5mm
pins: 1, 2

## WCAP-CSGP 0402, 885012105017
designator C?, comment 220000 pF
WCAP-CSGP MLCC, X5R, 0402, 220000 pF,16Vdc; Manufacturer: Wurth Elektronik; partNo: 885012105017; E-mail: libraries@we-online.com; ComponentLink1Description: Manufacturer; ComponentLink1URL: http://www.we-online.com; ComponentLink2Description: Datasheet; ComponentLink2URL: http://katalog.we-online.de/pbs/datasheet/885012105017.pdf; Created by: Karrer Zheng; Created Date: 3/9/2015; Capacitance: 220000 pF
footprint WCAP-CSGP 0402, H=0.5mm
pins: 1, 2

## WCAP-CSGP 0402, 885012105018
designator C?, comment 100000 pF
WCAP-CSGP MLCC, X5R, 0402, 100000 pF,25Vdc; Manufacturer: Wurth Elektronik; partNo: 885012105018; E-mail: libraries@we-online.com; ComponentLink1Description: Manufacturer; ComponentLink1URL: http://www.we-online.com; ComponentLink2Description: Datasheet; ComponentLink2URL: http://katalog.we-online.de/pbs/datasheet/885012105018.pdf; Created by: Karrer Zheng; Created Date: 3/9/2015; Capacitance: 100000 pF
footprint WCAP-CSGP 0402, H=0.5mm
pins: 1, 2


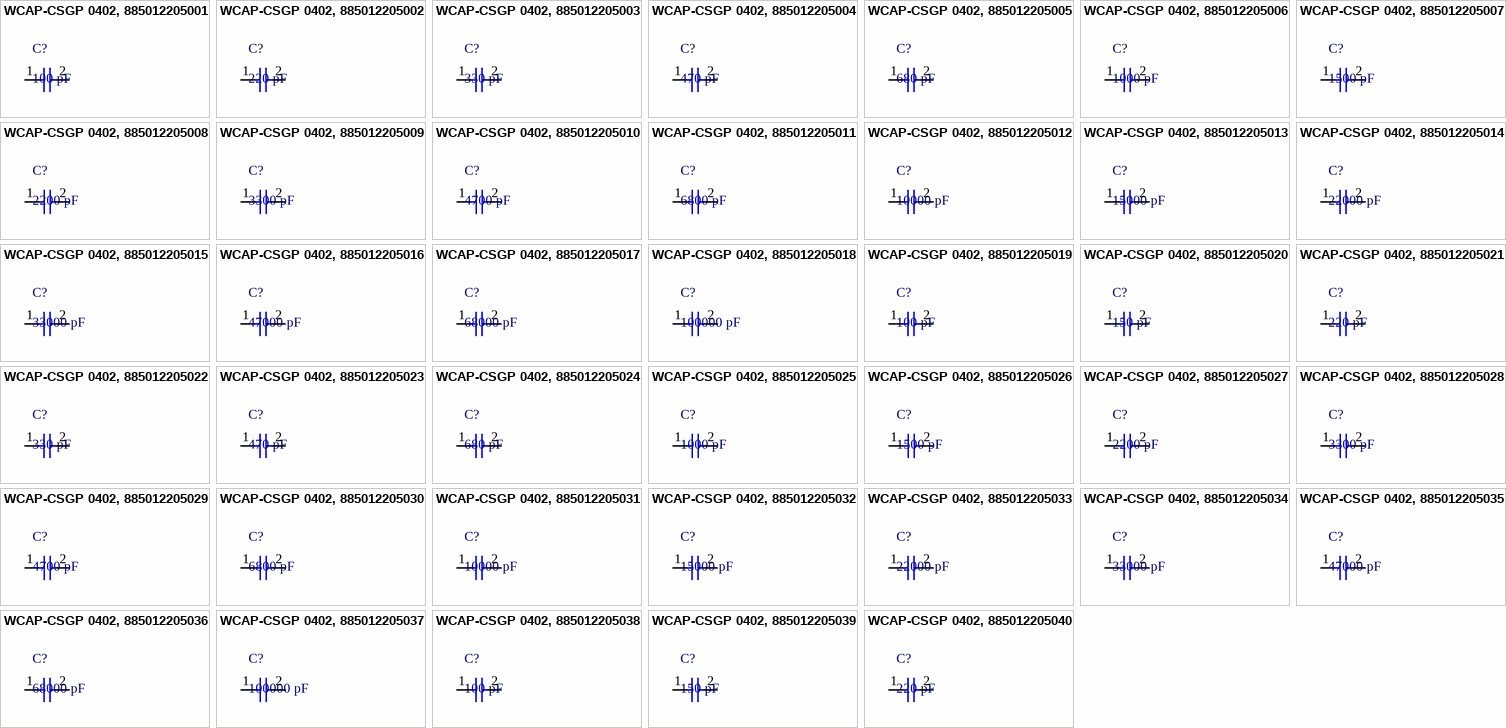
[diagram p3: symbols WCAP-CSGP 0402, 885012205001 to WCAP-CSGP 0402, 885012205040]

## WCAP-CSGP 0402, 885012205001
designator C?, comment 100 pF
WCAP-CSGP MLCC, X7R, 0402, 100 pF,10Vdc; Manufacturer: Wurth Elektronik; partNo: 885012205001; E-mail: libraries@we-online.com; ComponentLink1Description: Manufacturer; ComponentLink1URL: http://www.we-online.com; ComponentLink2Description: Datasheet; ComponentLink2URL: http://katalog.we-online.de/pbs/datasheet/885012205001.pdf; Created by: Karrer Zheng; Created Date: 3/9/2015; Capacitance: 100 pF
footprint WCAP-CSGP 0402, H=0.5mm
pins: 1, 2

## WCAP-CSGP 0402, 885012205002
designator C?, comment 220 pF
WCAP-CSGP MLCC, X7R, 0402, 220 pF,10Vdc; Manufacturer: Wurth Elektronik; partNo: 885012205002; E-mail: libraries@we-online.com; ComponentLink1Description: Manufacturer; ComponentLink1URL: http://www.we-online.com; ComponentLink2Description: Datasheet; ComponentLink2URL: http://katalog.we-online.de/pbs/datasheet/885012205002.pdf; Created by: Karrer Zheng; Created Date: 3/9/2015; Capacitance: 220 pF
footprint WCAP-CSGP 0402, H=0.5mm
pins: 1, 2

## WCAP-CSGP 0402, 885012205003
designator C?, comment 330 pF
WCAP-CSGP MLCC, X7R, 0402, 330 pF,10Vdc; Manufacturer: Wurth Elektronik; partNo: 885012205003; E-mail: libraries@we-online.com; ComponentLink1Description: Manufacturer; ComponentLink1URL: http://www.we-online.com; ComponentLink2Description: Datasheet; ComponentLink2URL: http://katalog.we-online.de/pbs/datasheet/885012205003.pdf; Created by: Karrer Zheng; Created Date: 3/9/2015; Capacitance: 330 pF
footprint WCAP-CSGP 0402, H=0.5mm
pins: 1, 2

## WCAP-CSGP 0402, 885012205004
designator C?, comment 470 pF
WCAP-CSGP MLCC, X7R, 0402, 470 pF,10Vdc; Manufacturer: Wurth Elektronik; partNo: 885012205004; E-mail: libraries@we-online.com; ComponentLink1Description: Manufacturer; ComponentLink1URL: http://www.we-online.com; ComponentLink2Description: Datasheet; ComponentLink2URL: http://katalog.we-online.de/pbs/datasheet/885012205004.pdf; Created by: Karrer Zheng; Created Date: 3/9/2015; Capacitance: 470 pF
footprint WCAP-CSGP 0402, H=0.5mm
pins: 1, 2

## WCAP-CSGP 0402, 885012205005
designator C?, comment 680 pF
WCAP-CSGP MLCC, X7R, 0402, 680 pF,10Vdc; Manufacturer: Wurth Elektronik; partNo: 885012205005; E-mail: libraries@we-online.com; ComponentLink1Description: Manufacturer; ComponentLink1URL: http://www.we-online.com; ComponentLink2Description: Datasheet; ComponentLink2URL: http://katalog.we-online.de/pbs/datasheet/885012205005.pdf; Created by: Karrer Zheng; Created Date: 3/9/2015; Capacitance: 680 pF
footprint WCAP-CSGP 0402, H=0.5mm
pins: 1, 2

## WCAP-CSGP 0402, 885012205006
designator C?, comment 1000 pF
WCAP-CSGP MLCC, X7R, 0402, 1000 pF,10Vdc; Manufacturer: Wurth Elektronik; partNo: 885012205006; E-mail: libraries@we-online.com; ComponentLink1Description: Manufacturer; ComponentLink1URL: http://www.we-online.com; ComponentLink2Description: Datasheet; ComponentLink2URL: http://katalog.we-online.de/pbs/datasheet/885012205006.pdf; Created by: Karrer Zheng; Created Date: 3/9/2015; Capacitance: 1000 pF
footprint WCAP-CSGP 0402, H=0.5mm
pins: 1, 2

## WCAP-CSGP 0402, 885012205007
designator C?, comment 1500 pF
WCAP-CSGP MLCC, X7R, 0402, 1500 pF,10Vdc; Manufacturer: Wurth Elektronik; partNo: 885012205007; E-mail: libraries@we-online.com; ComponentLink1Description: Manufacturer; ComponentLink1URL: http://www.we-online.com; ComponentLink2Description: Datasheet; ComponentLink2URL: http://katalog.we-online.de/pbs/datasheet/885012205007.pdf; Created by: Karrer Zheng; Created Date: 3/9/2015; Capacitance: 1500 pF
footprint WCAP-CSGP 0402, H=0.5mm
pins: 1, 2

## WCAP-CSGP 0402, 885012205008
designator C?, comment 2200 pF
WCAP-CSGP MLCC, X7R, 0402, 2200 pF,10Vdc; Manufacturer: Wurth Elektronik; partNo: 885012205008; E-mail: libraries@we-online.com; ComponentLink1Description: Manufacturer; ComponentLink1URL: http://www.we-online.com; ComponentLink2Description: Datasheet; ComponentLink2URL: http://katalog.we-online.de/pbs/datasheet/885012205008.pdf; Created by: Karrer Zheng; Created Date: 3/9/2015; Capacitance: 2200 pF
footprint WCAP-CSGP 0402, H=0.5mm
pins: 1, 2

## WCAP-CSGP 0402, 885012205009
designator C?, comment 3300 pF
WCAP-CSGP MLCC, X7R, 0402, 3300 pF,10Vdc; Manufacturer: Wurth Elektronik; partNo: 885012205009; E-mail: libraries@we-online.com; ComponentLink1Description: Manufacturer; ComponentLink1URL: http://www.we-online.com; ComponentLink2Description: Datasheet; ComponentLink2URL: http://katalog.we-online.de/pbs/datasheet/885012205009.pdf; Created by: Karrer Zheng; Created Date: 3/9/2015; Capacitance: 3300 pF
footprint WCAP-CSGP 0402, H=0.5mm
pins: 1, 2

## WCAP-CSGP 0402, 885012205010
designator C?, comment 4700 pF
WCAP-CSGP MLCC, X7R, 0402, 4700 pF,10Vdc; Manufacturer: Wurth Elektronik; partNo: 885012205010; E-mail: libraries@we-online.com; ComponentLink1Description: Manufacturer; ComponentLink1URL: http://www.we-online.com; ComponentLink2Description: Datasheet; ComponentLink2URL: http://katalog.we-online.de/pbs/datasheet/885012205010.pdf; Created by: Karrer Zheng; Created Date: 3/9/2015; Capacitance: 4700 pF
footprint WCAP-CSGP 0402, H=0.5mm
pins: 1, 2

## WCAP-CSGP 0402, 885012205011
designator C?, comment 6800 pF
WCAP-CSGP MLCC, X7R, 0402, 6800 pF,10Vdc; Manufacturer: Wurth Elektronik; partNo: 885012205011; E-mail: libraries@we-online.com; ComponentLink1Description: Manufacturer; ComponentLink1URL: http://www.we-online.com; ComponentLink2Description: Datasheet; ComponentLink2URL: http://katalog.we-online.de/pbs/datasheet/885012205011.pdf; Created by: Karrer Zheng; Created Date: 3/9/2015; Capacitance: 6800 pF
footprint WCAP-CSGP 0402, H=0.5mm
pins: 1, 2

## WCAP-CSGP 0402, 885012205012
designator C?, comment 10000 pF
WCAP-CSGP MLCC, X7R, 0402, 10000 pF,10Vdc; Manufacturer: Wurth Elektronik; partNo: 885012205012; E-mail: libraries@we-online.com; ComponentLink1Description: Manufacturer; ComponentLink1URL: http://www.we-online.com; ComponentLink2Description: Datasheet; ComponentLink2URL: http://katalog.we-online.de/pbs/datasheet/885012205012.pdf; Created by: Karrer Zheng; Created Date: 3/9/2015; Capacitance: 10000 pF
footprint WCAP-CSGP 0402, H=0.5mm
pins: 1, 2

## WCAP-CSGP 0402, 885012205013
designator C?, comment 15000 pF
WCAP-CSGP MLCC, X7R, 0402, 15000 pF,10Vdc; Manufacturer: Wurth Elektronik; partNo: 885012205013; E-mail: libraries@we-online.com; ComponentLink1Description: Manufacturer; ComponentLink1URL: http://www.we-online.com; ComponentLink2Description: Datasheet; ComponentLink2URL: http://katalog.we-online.de/pbs/datasheet/885012205013.pdf; Created by: Karrer Zheng; Created Date: 3/9/2015; Capacitance: 15000 pF
footprint WCAP-CSGP 0402, H=0.5mm
pins: 1, 2

## WCAP-CSGP 0402, 885012205014
designator C?, comment 22000 pF
WCAP-CSGP MLCC, X7R, 0402, 22000 pF,10Vdc; Manufacturer: Wurth Elektronik; partNo: 885012205014; E-mail: libraries@we-online.com; ComponentLink1Description: Manufacturer; ComponentLink1URL: http://www.we-online.com; ComponentLink2Description: Datasheet; ComponentLink2URL: http://katalog.we-online.de/pbs/datasheet/885012205014.pdf; Created by: Karrer Zheng; Created Date: 3/9/2015; Capacitance: 22000 pF
footprint WCAP-CSGP 0402, H=0.5mm
pins: 1, 2

## WCAP-CSGP 0402, 885012205015
designator C?, comment 33000 pF
WCAP-CSGP MLCC, X7R, 0402, 33000 pF,10Vdc; Manufacturer: Wurth Elektronik; partNo: 885012205015; E-mail: libraries@we-online.com; ComponentLink1Description: Manufacturer; ComponentLink1URL: http://www.we-online.com; ComponentLink2Description: Datasheet; ComponentLink2URL: http://katalog.we-online.de/pbs/datasheet/885012205015.pdf; Created by: Karrer Zheng; Created Date: 3/9/2015; Capacitance: 33000 pF
footprint WCAP-CSGP 0402, H=0.5mm
pins: 1, 2

## WCAP-CSGP 0402, 885012205016
designator C?, comment 47000 pF
WCAP-CSGP MLCC, X7R, 0402, 47000 pF,10Vdc; Manufacturer: Wurth Elektronik; partNo: 885012205016; E-mail: libraries@we-online.com; ComponentLink1Description: Manufacturer; ComponentLink1URL: http://www.we-online.com; ComponentLink2Description: Datasheet; ComponentLink2URL: http://katalog.we-online.de/pbs/datasheet/885012205016.pdf; Created by: Karrer Zheng; Created Date: 3/9/2015; Capacitance: 47000 pF
footprint WCAP-CSGP 0402, H=0.5mm
pins: 1, 2